# EAGLE library part SN754410 (library CH_TI)
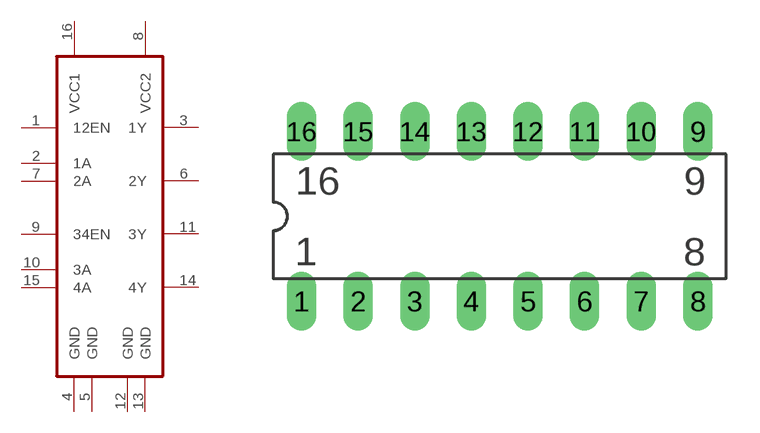
[diagram p4: symbol with the pads of DIP16; footprint DIP16]

Designator prefix U

## SN754410  [DIP16]
1  12EN  in
2  1A  in
3  1Y
4  GND  pas
5  GND  pas
6  2Y
7  2A  in
8  VCC2  sup
9  34EN  in
10  3A  in
11  3Y
12  GND  pas
13  GND  pas
14  4Y
15  4A  in
16  VCC1  sup

## Footprint DIP16 (pad centres in mm)
drill 0.813 long: 1 -8.89,-3.81; 2 -6.35,-3.81; 3 -3.81,-3.81; 4 -1.27,-3.81; 5 1.27,-3.81; 6 3.81,-3.81; 7 6.35,-3.81; 8 8.89,-3.81; 9 8.89,3.81; 10 6.35,3.81; 11 3.81,3.81; 12 1.27,3.81; 13 -1.27,3.81; 14 -3.81,3.81; 15 -6.35,3.81; 16 -8.89,3.81